# Altium integrated library Integrated_Library - 02.05.18 - 12.00.IntLib: 1 symbol
Pins are listed as number, name and electrical type; pins without a type are passive.

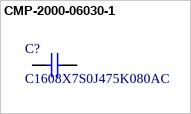
[diagram p0: symbol CMP-2000-06030-1]

## CMP-2000-06030-1
designator C?, comment C1608X7S0J475K080AC
Chip Capacitor, 4.7 uF, +/- 10%, 6.3 V, -55 to 125 degC, 0603 (1608 Metric), RoHS, Tape and Reel; Manufacturer: TDK; PCN Part Number: MLCCPartNumberChange30/Nov/2012; Voltage - Rated: 6.3V; Temperature Coefficient: X7S; Online Catalog: CSeries,GeneralPurpose; Design Resources: 20WNon-IsolatedBuckLEDDriverUsingPLLNK460KG; Capacitance: 4.7µF; Other Names: 445-9120-6; Product Training Modules: CSeriesGeneralApplicationsSEAT,CCV,andTVCLDesignToolsGuidetoReplacinganElectrolyticCapacitorwithanMLCC; Datasheet URL: https://product.tdk.com/info/en/catalog/datasheets/mlcc_commercial_general_en.pdf; Package Description: 2-Pin Surface Mount Device, Body 1.6 x 0.8 mm; Applications: GeneralPurpose; Mounting Type: SurfaceMount,MLCC; Family: CeramicCapacitors; Category: Capacitors; Lead Spacing: -; Ratings: -; Size / Dimension: 0.063"Lx0.031"W(1.60mmx0.80mm); RoHS Information: RoHSCertificate-MLCC; Packaging: Digi-Reel®; Manufacturer URL: http://www.tdk.com/; Mounting Technology: SurfaceMount; Standard Package: 1; Height - Seated (Max): -; Series: C; Thickness (Max): 0.035"(0.90mm); Features: -; Package / Case: 0603(1608Metric); Operating Temperature: -55°C~125°C; Lead Style: -; Datasheet Version: 08/2016; Package Reference: 0603; Tolerance: ±10%
footprint CAPC1608X90X20NL10 (Chip Capacitor, 2-Leads, Body 1.70x0.90mm, IPC Medium Density)
footprint CAPC1608X90X20ML10 (Chip Capacitor, 2-Leads, Body 1.70x0.90mm, IPC Low Density)
footprint CAPC1608X90X20LL10 (Chip Capacitor, 2-Leads, Body 1.70x0.90mm, IPC High Density)
pins: 1, 2